# Altium footprint library libreriaPcb.PcbLib: 683 footprints (part 34 of 44)
Each footprint in its own frame and in the unit in brackets; x right, y up, seen from the top. Pads: shape width x height; smd on the part's side, far side on the other; paste and mask are expansions set on the pad; w line width, h text height; cw(c..) or ccw(c..) is an arc to the next point about the centre after c.
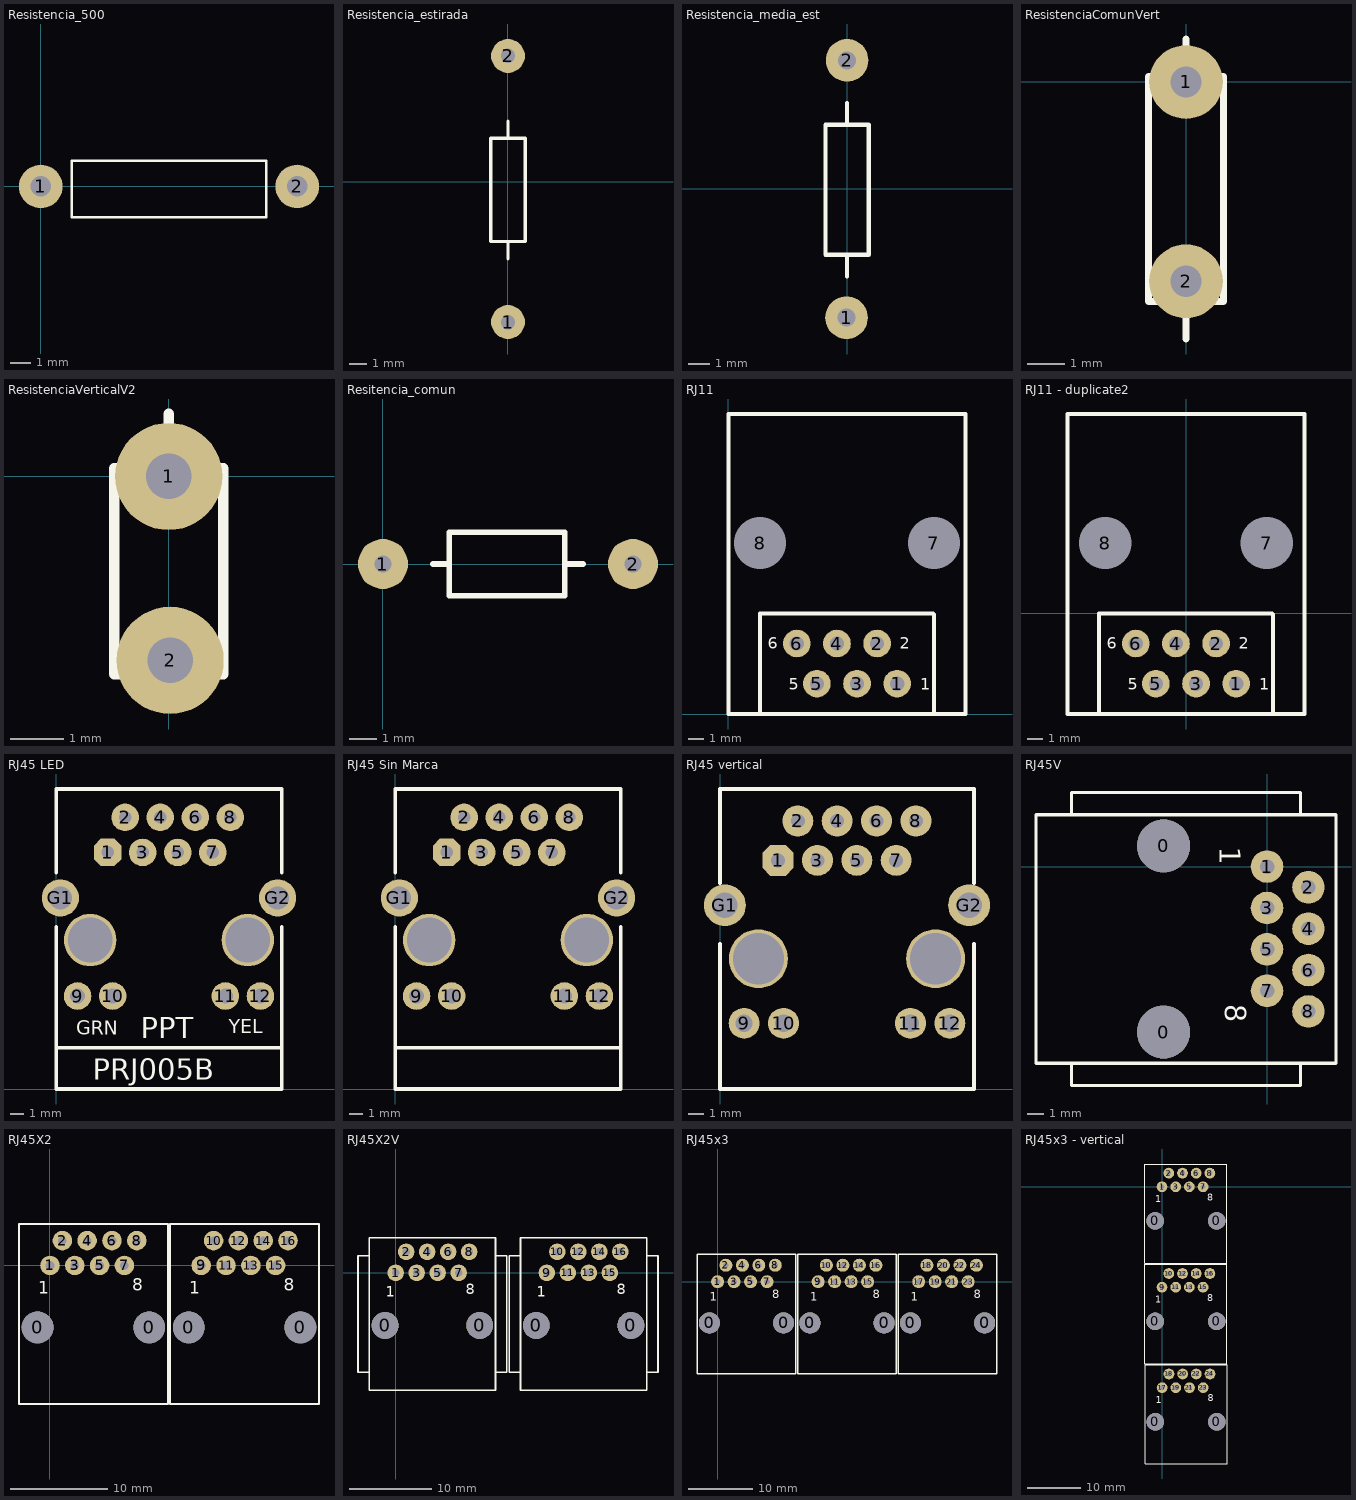
[diagram p33: the footprints below, top view; thin cyan lines are the x and y axes]

## Resistencia_500 [mil]
pads (2):
  round 85 / inner round 0 / far side round 85 hole 40 paste+0: 1(0,0) 2(500,0)
Top Overlay:
  lines w5: 60,-60 440,-60 440,50 60,50 60,-60

## Resistencia_estirada [mm]
pads (2):
  round 2 hole 0.85: 1(0.007,-8.288) 2(0.007,7.412)
Top Overlay:
  lines w0.2: 0.007,-4.552 0.007,-3.536 ; 0.007,2.56 0.007,3.576 ; -1.009,-3.536 -1.009,2.56 1.023,2.56 1.023,-3.536 -1.009,-3.536
3D body: height 1.5, standoff 0, extent -0.293,-8.588 0.307,-7.988
3D body: height 1.5, standoff 0, extent -0.293,7.112 0.307,7.712
3D body: height 1.7, standoff 1.1, extent -0.291,-8.588 0.307,7.412
3D body: height 2.4, standoff 0.4, extent -0.975,-3.531 1.025,2.469

## Resistencia_media_est [mm]
pads (2):
  round 2 hole 0.85: 1(-0.025,-6.045) 2(0,6.02)
Top Overlay:
  lines w0.2: 0,-4.114 0,-3.098 ; 0,2.998 0,4.014 ; -1.016,-3.098 -1.016,2.998 1.016,2.998 1.016,-3.098 -1.016,-3.098
3D body: height 1.5, standoff 0, extent -0.325,-6.345 0.275,-5.745
3D body: height 1.5, standoff 0, extent -0.6,5.42 0,6.02
3D body: height 1.7, standoff 1.1, extent -0.272,-6.234 0.326,5.766
3D body: height 2.4, standoff 0.4, extent -0.981,-3.093 1.019,2.907

## ResistenciaComunVert [mm]
pads (2):
  round 2 hole 0.85: 1(0,0) 2(0,-5.4)
Top Overlay:
  lines w0.2: 0,-6.964 0,-5.948 ; 0,0.148 0,1.164 ; -1.016,-5.948 1.016,-5.948 1.016,0.148 -1.016,0.148 -1.016,-5.948
3D body: height 7.4, standoff 6, extent -0.4,-0.4 0.4,0.4
3D body: height 7.4, standoff 6.6, extent -0.411,-5.696 0.389,0.304
3D body: height 7, standoff 0, extent -0.397,-5.799 0.4,-5.001
3D body: height 6, standoff 0, extent -1,-1 1,1

## ResistenciaVerticalV2 [mm]
pads (2):
  round 2 hole 0.85: 1(0,0) 2(0.025,-3.429)
Top Overlay:
  lines w0.2: 0,0.148 0,1.164 ; -1.016,-3.683 -1.016,0.148 1.016,0.148 1.016,-3.683 -1.016,-3.683
3D body: height 6, standoff 0, extent -1,-1 1,1
3D body: height 7, standoff 0, extent -0.371,-3.828 0.425,-3.03
3D body: height 7.4, standoff 6.6, extent -0.411,-3.696 0.389,0.304
3D body: height 7.4, standoff 6, extent -0.4,-0.4 0.4,0.4

## Resitencia_comun [mm]
pads (2):
  round 1.8 hole 0.6: 1(0,0) 2(9,0)
Top Overlay:
  lines w0.2: 1.8,0 2.38,0 ; 6.55,0 7.2,0 ; 2.38,0 2.385,1.14 6.55,1.14 6.55,-1.14 2.38,-1.14 2.38,0
3D body: height -1.01, standoff -3, extent 1.98,-1.2 6.98,0.796

## RJ11 [mm]
pads (8):
  round 1.75 hole 0.9: 1(10.675,1.92) 2(9.405,4.46) 3(8.135,1.92) 4(6.865,4.46) 5(5.595,1.92) 6(4.325,4.46)
  round 1.524 hole 3.3: 7(13,10.81) 8(2,10.81)
Top Overlay:
  lines w0.254: 2,0.013 2,6.313 ; 2,6.363 12.936,6.363 13,6.299 13,0 ; 4.99,4.46 5,4.47 ; 7.44,4.26 7.45,4.27 ; 7.49,4.45 7.5,4.44 ; 8.65,1.9 8.73,1.98 ; 9.89,3.98 9.93,3.94 ; 0,0 15,0 15,18.98 0,18.98 0,0
  text "1" at 12.123,1.539 h0.75
  text "2" at 10.853,4.13 h0.75
  text "6" at 2.471,4.13 h0.75
  text "5" at 3.817,1.539 h0.75
3D body: height 1, standoff 0, extent 0,6.363 15,18.98
3D body: height 12, standoff 0, extent 0,0 15,6.363
3D body: height 2, standoff 1, extent 9.989,6.363 15,18.98
3D body: height 2, standoff 1, extent 0,6.363 5,18.98
3D body: height 3, standoff 1, extent 0,6.313 4,18.98
3D body: height 3, standoff 1, extent 11.056,6.363 15,18.98
3D body: height 4, standoff 1, extent 12.495,6.363 15,18.98
3D body: height 4, standoff 1, extent 0,6.363 2.5,18.98
3D body: height 10, standoff 1, extent 0,6.389 1.506,18.98
3D body: height 10, standoff 1, extent 13.494,6.389 15,18.98
3D body: height 12, standoff 10, extent 0,6.389 15,18.98

## RJ11 - duplicate2 [mm]
pads (8):
  round 1.75 hole 0.9: 1(3.175,-4.445) 2(1.905,-1.905) 3(0.635,-4.445) 4(-0.635,-1.905) 5(-1.905,-4.445) 6(-3.175,-1.905)
  round 1.524 hole 3.3: 7(5.105,4.445) 8(-5.105,4.445)
Top Overlay:
  lines w0.254: -5.5,-6.352 -5.5,-0.052 ; -5.5,-0.002 5.436,-0.002 5.5,-0.066 5.5,-6.365 ; -2.51,-1.905 -2.5,-1.895 ; -0.06,-2.105 -0.05,-2.095 ; -0.01,-1.915 0,-1.925 ; 1.15,-4.465 1.23,-4.385 ; 2.39,-2.385 2.43,-2.425 ; -7.5,-6.365 -7.5,12.615 7.5,12.615 7.5,-6.365 -7.5,-6.365
  text "5" at -3.683,-4.826 h0.75
  text "6" at -5.029,-2.235 h0.75
  text "2" at 3.353,-2.235 h0.75
  text "1" at 4.623,-4.826 h0.75
3D body: height 12, standoff 10, extent -7.5,0.024 7.5,12.615
3D body: height 10, standoff 1, extent 5.994,0.024 7.5,12.615
3D body: height 10, standoff 1, extent -7.5,0.024 -5.994,12.615
3D body: height 4, standoff 1, extent -7.5,-0.002 -5,12.615
3D body: height 4, standoff 1, extent 4.995,-0.002 7.5,12.615
3D body: height 3, standoff 1, extent 3.556,-0.002 7.5,12.615
3D body: height 3, standoff 1, extent -7.5,-0.052 -3.5,12.615
3D body: height 2, standoff 1, extent -7.5,-0.002 -2.5,12.615
3D body: height 2, standoff 1, extent 2.489,-0.002 7.5,12.615
3D body: height 12, standoff 0, extent -7.5,-6.365 7.5,-0.002
3D body: height 1, standoff 0, extent -7.5,-0.002 7.5,12.615

## RJ45 LED [mm]
pads (16):
  oct 2x2 hole 0.9: 1(3.745,17.15)
  round 2 hole 0.9: 2(5.015,19.69) 3(6.285,17.15) 4(7.555,19.69) 5(8.825,17.15) 6(10.095,19.69) 7(11.365,17.15) 8(12.635,19.69)
  round 2 hole 1.1: 9(1.56,6.74) 10(4.1,6.74) 11(12.28,6.74) 12(14.82,6.74)
  round 2.7 hole 1.65: G1(0.315,13.85) G2(16.065,13.85)
  round 3.8 hole 3.25: ""(2.475,10.8) ""(13.905,10.8)
Top Overlay:
  lines w0.254: 0,3 16.38,3 ; 0,11.754 0,0 16.38,0 16.38,11.754 ; 0,15.688 0,21.75 16.38,21.75 16.38,15.688
  text "PPT" at 6.127,3.696 h1.52
  text "PRJ005B" at 2.652,0.671 h1.52
  text "YEL" at 12.527,4.046 h1.02
  text "GRN" at 1.452,3.946 h1.02
3D body "R80707.stp": height 14.65, standoff -4.44, extent -0.73,-0.187 17.13,22.3

## RJ45 Sin Marca [mm]
pads (16):
  oct 2x2 hole 0.9: 1(3.745,17.15)
  round 2 hole 0.9: 2(5.015,19.69) 3(6.285,17.15) 4(7.555,19.69) 5(8.825,17.15) 6(10.095,19.69) 7(11.365,17.15) 8(12.635,19.69)
  round 2 hole 1.1: 9(1.56,6.74) 10(4.1,6.74) 11(12.28,6.74) 12(14.82,6.74)
  round 2.7 hole 1.65: G1(0.315,13.85) G2(16.065,13.85)
  round 3.8 hole 3.25: ""(2.475,10.8) ""(13.905,10.8)
Top Overlay:
  lines w0.254: 0,3 16.38,3 ; 0,11.754 0,0 16.38,0 16.38,11.754 ; 0,15.688 0,21.75 16.38,21.75 16.38,15.688
3D body "R80707.stp": height 14.65, standoff -4.44, extent -0.73,-0.187 17.13,22.3

## RJ45 vertical [mm]
pads (16):
  oct 2x2 hole 0.9: 1(3.745,14.75)
  round 2 hole 0.9: 2(5.015,17.29) 3(6.285,14.75) 4(7.555,17.29) 5(8.825,14.75) 6(10.095,17.29) 7(11.365,14.75) 8(12.635,17.29)
  round 2 hole 1.1: 9(1.56,4.24) 10(4.1,4.24) 11(12.28,4.24) 12(14.82,4.24)
  round 2.7 hole 1.65: G1(0.315,11.85) G2(16.065,11.85)
  round 3.8 hole 3.3: ""(2.475,8.4) ""(13.905,8.4)
Top Overlay:
  lines w0.254: 0,9.354 0,0 16.38,0 16.38,9.354 ; 0,13.288 0,19.35 16.38,19.35 16.38,13.288
3D body "R80707.stp": height 22.36, standoff -0.12, extent -0.757,-0.045 17.11,19.061

## RJ45V [mm]
pads (10):
  round 3.25 hole 3.25: 0(-6.35,-10.16) 0(-6.35,1.27)
  round 2 hole 0.889: 1(0,0) 2(2.54,-1.27) 3(0,-2.54) 4(2.54,-3.81) 5(0,-5.08) 6(2.54,-6.35) 7(0,-7.62) 8(2.54,-8.89)
Top Overlay:
  lines w0.203: -12,-12.065 -12,-13.44 2.052,-13.44 2.052,-12.065 ; -12,3.175 -12,4.55 2.052,4.55 2.052,3.175 ; -14.182,-12.065 4.233,-12.065 4.233,3.175 -14.182,3.175 -14.182,-12.065
  text "1" at -2.899,1.215 h1.27
  text "8" at -2.567,-8.444 h1.27

## RJ45X2 [mm]
pads (20):
  round 3.25 hole 3.25: 0(-1.27,-6.35) 0(10.16,-6.35) 0(14.224,-6.35) 0(25.654,-6.35)
  round 2 hole 0.889: 1(0,0) 2(1.27,2.54) 3(2.54,0) 4(3.81,2.54) 5(5.08,0) 6(6.35,2.54) 7(7.62,0) 8(8.89,2.54) 9(15.494,0) 10(16.764,2.54) 11(18.034,0) 12(19.304,2.54) 13(20.574,0) 14(21.844,2.54) 15(23.114,0) 16(24.384,2.54)
Top Overlay:
  lines w0.203: -3.175,-14.182 -3.175,4.233 12.065,4.233 12.065,-14.182 -3.175,-14.182 ; 12.319,-14.182 12.319,4.233 27.559,4.233 27.559,-14.182 12.319,-14.182
  text "1" at 14.279,-2.899 h1.27
  text "8" at 23.938,-2.567 h1.27
  text "1" at -1.215,-2.899 h1.27
  text "8" at 8.444,-2.567 h1.27

## RJ45X2V [mm]
pads (20):
  round 3.25 hole 3.25: 0(-1.27,-6.35) 0(10.16,-6.35) 0(17,-6.35) 0(28.43,-6.35)
  round 2 hole 0.889: 1(0,0) 2(1.27,2.54) 3(2.54,0) 4(3.81,2.54) 5(5.08,0) 6(6.35,2.54) 7(7.62,0) 8(8.89,2.54) 9(18.27,0) 10(19.54,2.54) 11(20.81,0) 12(22.08,2.54) 13(23.35,0) 14(24.62,2.54) 15(25.89,0) 16(27.16,2.54)
Top Overlay:
  lines w0.203: -3.175,-12 -4.55,-12 -4.55,2.052 -3.175,2.052 ; 12.065,-12 13.44,-12 13.44,2.052 12.065,2.052 ; 15.095,-12 13.72,-12 13.72,2.052 15.095,2.052 ; 30.335,-12 31.71,-12 31.71,2.052 30.335,2.052 ; -3.175,-14.182 -3.175,4.233 12.065,4.233 12.065,-14.182 -3.175,-14.182 ; 15.095,-14.182 15.095,4.233 30.335,4.233 30.335,-14.182 15.095,-14.182
  text "1" at -1.215,-2.899 h1.27
  text "8" at 8.444,-2.567 h1.27
  text "1" at 17.055,-2.899 h1.27
  text "8" at 26.714,-2.567 h1.27

## RJ45x3 [mm]
pads (30):
  round 3.25 hole 3.25: 0(-1.27,-6.35) 0(10.16,-6.35) 0(14.224,-6.35) 0(25.654,-6.35) 0(29.718,-6.35) 0(41.148,-6.35)
  round 2 hole 0.889: 1(0,0) 2(1.27,2.54) 3(2.54,0) 4(3.81,2.54) 5(5.08,0) 6(6.35,2.54) 7(7.62,0) 8(8.89,2.54) 9(15.494,0) 10(16.764,2.54) 11(18.034,0) 12(19.304,2.54) 13(20.574,0) 14(21.844,2.54) 15(23.114,0) 16(24.384,2.54) 17(30.988,0) 18(32.258,2.54) 19(33.528,0) 20(34.798,2.54) 21(36.068,0) 22(37.338,2.54) 23(38.608,0) 24(39.878,2.54)
Top Overlay:
  lines w0.203: -3.175,-14.182 -3.175,4.233 12.065,4.233 12.065,-14.182 -3.175,-14.182 ; 12.319,-14.182 12.319,4.233 27.559,4.233 27.559,-14.182 12.319,-14.182 ; 27.813,-14.182 27.813,4.233 43.053,4.233 43.053,-14.182 27.813,-14.182
  text "1" at 14.279,-2.899 h1.27
  text "8" at 23.938,-2.567 h1.27
  text "1" at -1.215,-2.899 h1.27
  text "8" at 8.444,-2.567 h1.27
  text "1" at 29.773,-2.899 h1.27
  text "8" at 39.432,-2.567 h1.27

## RJ45x3 - vertical [mm]
height 1.35
pads (30):
  round 3.25 hole 3.25: 0(-1.27,-25) 0(-1.27,-6.35) 0(-1.251,-43.65) 0(10.16,-25) 0(10.16,-6.35) 0(10.179,-43.65)
  round 2 hole 0.889: 1(0,0) 2(1.27,2.54) 3(2.54,0) 4(3.81,2.54) 5(5.08,0) 6(6.35,2.54) 7(7.62,0) 8(8.89,2.54) 9(0,-18.65) 10(1.27,-16.11) 11(2.54,-18.65) 12(3.81,-16.11) 13(5.08,-18.65) 14(6.35,-16.11) 15(7.62,-18.65) 16(8.89,-16.11) 17(0.019,-37.3) 18(1.289,-34.76) 19(2.559,-37.3) 20(3.829,-34.76) 21(5.099,-37.3) 22(6.369,-34.76) 23(7.639,-37.3) 24(8.909,-34.76)
Top Overlay:
  lines w0.203: -3.175,-32.832 -3.175,-14.417 12.065,-14.417 12.065,-32.832 -3.175,-32.832 ; -3.175,-14.182 -3.175,4.233 12.065,4.233 12.065,-14.182 -3.175,-14.182 ; -3.156,-51.482 -3.156,-33.067 12.084,-33.067 12.084,-51.482 -3.156,-51.482
  text "8" at 8.463,-39.867 h1.27
  text "1" at -1.196,-40.199 h1.27
  text "1" at -1.215,-21.549 h1.27
  text "8" at 8.444,-21.217 h1.27
  text "1" at -1.215,-2.899 h1.27
  text "8" at 8.444,-2.567 h1.27